# Altium footprint library JST SM03B-GHS-TB.PCBLIB: 1 footprints
Each footprint in its own frame and in the unit in brackets; x right, y up, seen from the top. Pads: shape width x height; smd on the part's side, far side on the other; paste and mask are expansions set on the pad; w line width, h text height; cw(c..) or ccw(c..) is an arc to the next point about the centre after c.
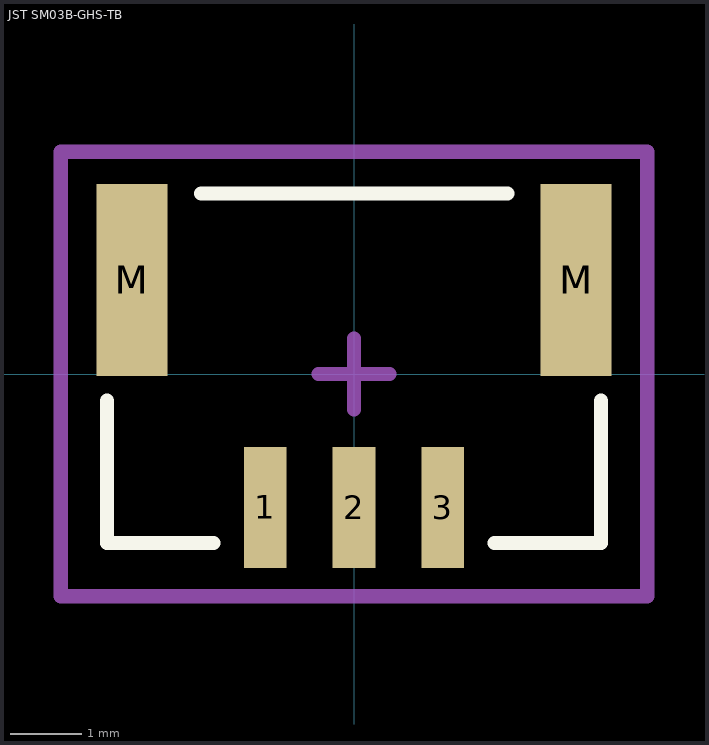
[diagram p0: the footprint, top view; thin cyan lines are the x and y axes]

## JST SM03B-GHS-TB [mm] "1.25mm pitch/Disconnectable Crimp style connectors"
height 4.35
pads (5):
  rect 0.6x1.7 smd: 1(-1.25,-1.875) 2(0,-1.875) 3(1.25,-1.875)
  rect 1x2.7 smd: M(-3.125,1.325) M(3.125,1.325)
Top Overlay:
  lines w0.2: -3.475,-0.375 -3.475,-2.375 -1.975,-2.375 ; -2.149,2.54 2.159,2.54 ; 1.975,-2.375 3.475,-2.375 3.475,-0.375
Mechanical 15:
  lines w0.2: -0.5,0 0.5,0 ; 0,-0.5 0,0.5 ; -4.125,-3.125 -4.125,3.125 4.125,3.125 4.125,-3.125 -4.125,-3.125
3D body "JST SM03B-GHS-TB.STEP": height 4.35, standoff 0, extent -3.5,-2.31 3.5,2.54